# EAGLE library part DUAL_LS7366R (library RaspberryPi)
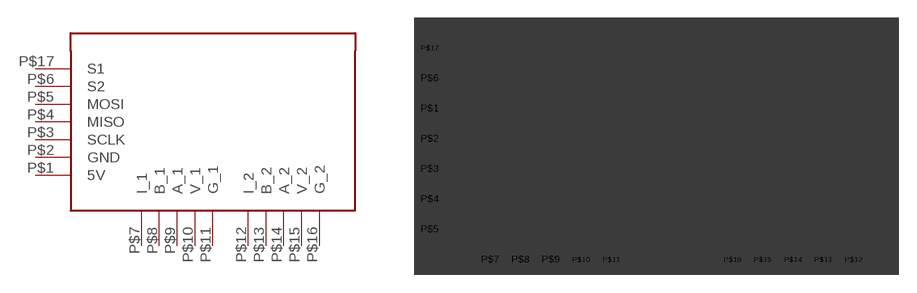
[diagram p6: symbol with the pads of DUAL_LS7366R; footprint DUAL_LS7366R]

Designator prefix -

## DUAL_LS7366R  [DUAL_LS7366R]
P$1  5V
P$2  GND
P$3  SCLK
P$4  MISO
P$5  MOSI
P$6  S2
P$7  I_1
P$8  B_1
P$9  A_1
P$10  V_1
P$11  G_1
P$12  I_2
P$13  B_2
P$14  A_2
P$15  V_2
P$16  G_2
P$17  S1

## Footprint DUAL_LS7366R (pad centres in mm)
drill 0.8 square: P$1 -6.35,1.27; P$2 -6.35,-1.27; P$3 -6.35,-3.81; P$4 -6.35,-6.35; P$5 -6.35,-8.89; P$6 -6.35,3.81; P$7 -1.27,-11.43; P$8 1.27,-11.43; P$9 3.81,-11.43; P$10 6.35,-11.43; P$11 8.89,-11.43; P$12 29.21,-11.43; P$13 26.67,-11.43; P$14 24.13,-11.43; P$15 21.59,-11.43; P$16 19.05,-11.43; P$17 -6.35,6.35
hole 0.6 at -6.35,3.81
hole 0.6 at -6.35,1.27
hole 0.6 at -6.35,-1.27
hole 0.6 at -6.35,-3.81
hole 0.6 at -6.35,-6.35
hole 0.6 at -6.35,-8.89
hole 0.6 at -1.27,-11.43
hole 0.6 at 1.27,-11.43
hole 0.6 at 3.81,-11.43
hole 0.6 at 6.35,-11.43
hole 0.6 at 8.89,-11.43
hole 0.6 at 19.05,-11.43
hole 0.6 at 21.59,-11.43
hole 0.6 at 24.13,-11.43
hole 0.6 at 26.67,-11.43
hole 0.6 at 29.21,-11.43
hole 0.6 at -6.35,6.35